# Altium schematic symbol library 5V_Converter.SchLib: 1 symbol
Pins are listed as number, name and electrical type; pins without a type are passive.

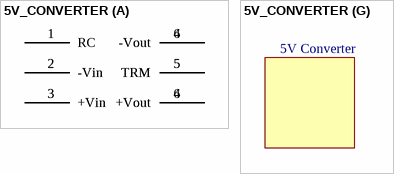
[diagram p0: symbol 5V_CONVERTER]

## 5V_CONVERTER
designator ?
part A pins: 1 RC, 2 -Vin, 2 -Vin, 3 +Vin, 3 +Vin, 4 +Vout, 4 -Vout, 5 TRM, 5 TRM, 6 -Vout, 6 +Vout
part G text: 5V Converter